# Altium footprint library SG_Common.PcbLib: 11 footprints
Each footprint in its own frame and in the unit in brackets; x right, y up, seen from the top. Pads: shape width x height; smd on the part's side, far side on the other; paste and mask are expansions set on the pad; w line width, h text height; cw(c..) or ccw(c..) is an arc to the next point about the centre after c.
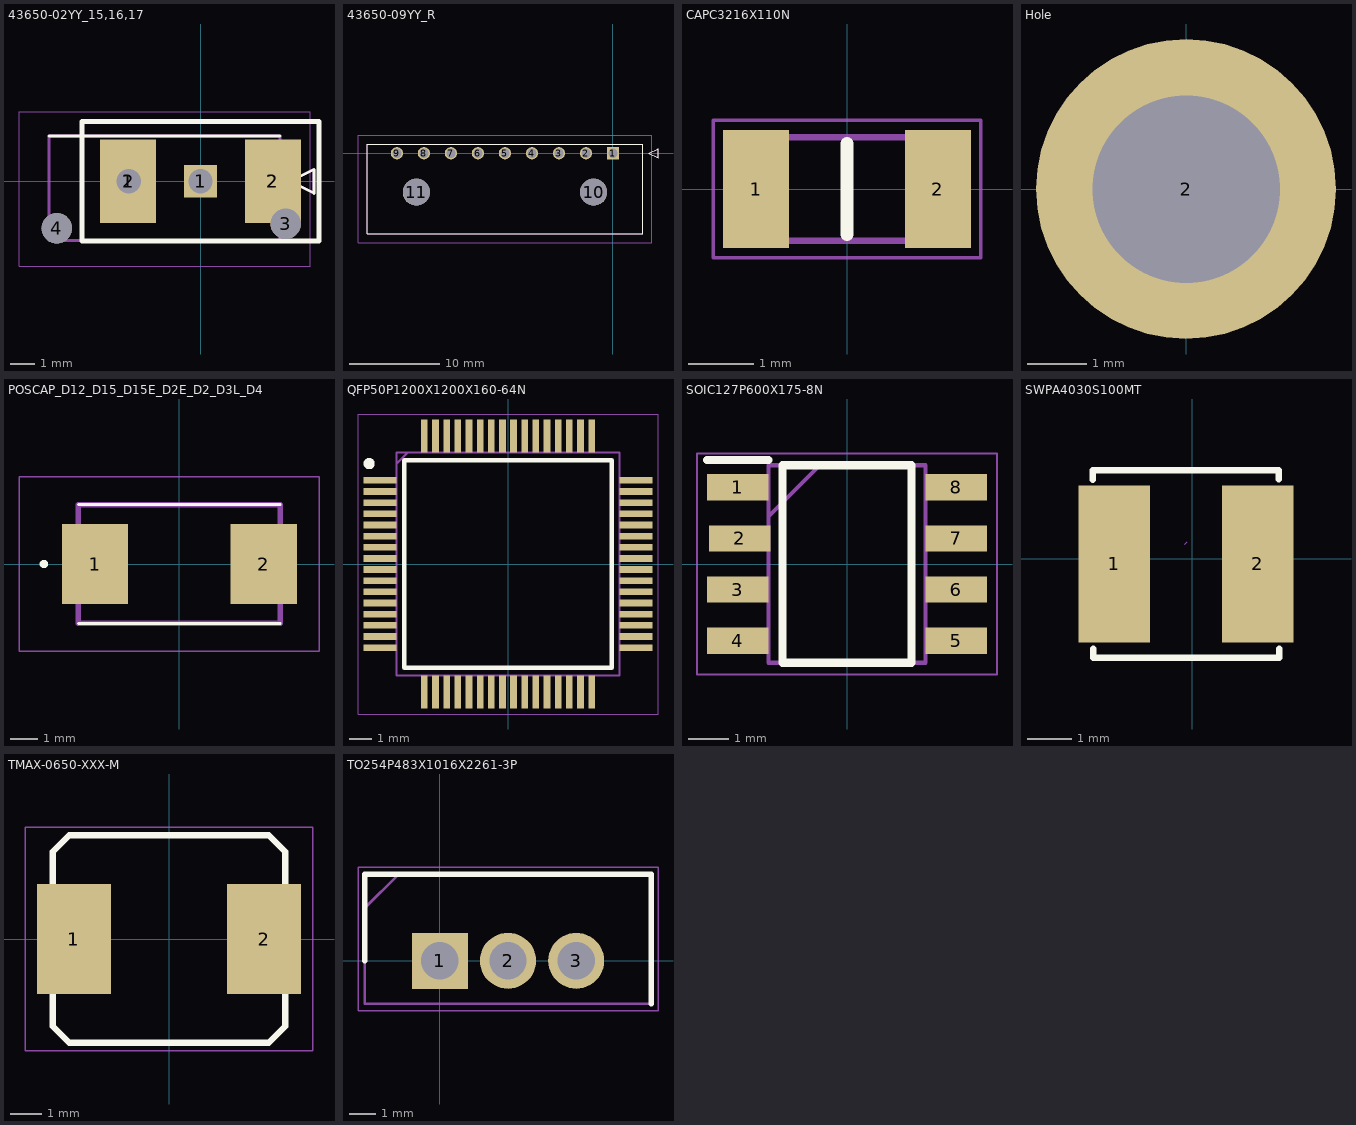
[diagram p0: the footprints below, top view; thin cyan lines are the x and y axes]

## 43650-02YY_15,16,17 [mm]
pads (8):
  rect 2.35x3.5 smd: 1(-3.025,0) 1(-3.025,0) 2(3.025,0) 2(3.025,0)
  rect 1.37x1.37 hole 1.02: 1(0,0)
  round 1.37 hole 1.02: 2(-3,0)
  round 1.27 hole 1.27 unplated: 3(3.556,-1.778) 4(-6,-1.96)
Top Overlay:
  lines w0.127: -6.325,1.9 3.325,1.9 ; 3.75,0 4.75,-0.5 4.75,0.5 3.75,0
  lines w0.2: -4.95,-2.5 4.95,-2.5 ; -4.95,-2.5 -4.95,0 ; -4.95,-2.5 4.95,-2.5 ; -4.95,-2.5 -4.95,0 ; -4.95,0 -4.95,2.5 ; -4.95,0 -4.95,2.5 ; -4.95,2.5 4.95,2.5 ; -4.95,2.5 4.95,2.5 ; 4.95,-2.5 4.95,2.5 ; 4.95,-2.5 4.95,2.5
Mechanical 13:
  lines w0.127: -6.325,-2.47 3.325,-2.47 3.325,1.9 -6.325,1.9 -6.325,-2.47 ; 3.75,0 4.75,-0.5 4.75,0.5 3.75,0
Mechanical 15:
  lines w0.05: -7.584,-3.544 4.584,-3.544 4.584,2.9 -7.584,2.9 -7.584,-3.544
3D body "43650-0215.stp": height 9.81, standoff -3.27, extent -6.35,-2.413 3.3,3.192

## 43650-09YY_R [mm]
pads (11):
  rect 1.37x1.37 hole 1.02: 1(0,0)
  round 1.37 hole 1.02: 2(-3,0) 3(-6,0) 4(-9,0) 5(-12,0) 6(-15,0) 7(-18,0) 8(-21,0) 9(-24,0)
  round 3 hole 3 unplated: 10(-2.15,-4.32) 11(-21.85,-4.32)
Top Overlay:
  lines w0.127: -27.325,-8.92 -27.325,0.98 3.325,0.98 3.325,-8.92 -27.325,-8.92 ; 4,0 5,0.5 5,-0.5 4,0
Mechanical 13:
  lines w0.127: -27.325,-8.92 -27.325,0.98 3.325,0.98 3.325,-8.92 -27.325,-8.92 ; 4,0 5,0.5 5,-0.5 4,0
Mechanical 15:
  lines w0.05: -28.325,-9.92 -28.325,1.98 4.325,1.98 4.325,-9.92 -28.325,-9.92
3D body "43650-0900.stp": height 5.54, standoff -3.37, extent -27.315,-8.9 3.315,1

## CAPC3216X110N [mm]
pads (2):
  rect 1.02x1.82 smd: 1(-1.4,0) 2(1.4,0)
Top Overlay:
  lines w0.2: 0,-0.7 0,0.7
Mechanical 13:
  lines w0.1: -1.6,-0.8 1.6,-0.8 1.6,0.8 -1.6,0.8 -1.6,-0.8
Mechanical 15:
  lines w0.05: -2.06,-1.06 2.06,-1.06 2.06,1.06 -2.06,1.06 -2.06,-1.06
3D body "C1206C104K5RAC7867.stp": height 1.1, standoff 0, extent -1.6,-0.8 1.6,0.8

## Hole [mm]
pads (1):
  round 5.08 hole 3.175: 2(0,0)

## PCBComponent_1 [mm]

## POSCAP_D12_D15_D15E_D2E_D2_D3L_D4 [mm]
pads (2):
  rect 2.4x2.9 smd: 1(-3.05,0) 2(3.05,0)
Top Overlay:
  circle w0.2: c-4.9,0 r0.05
  lines w0.1: -3.65,-2.15 3.65,-2.15 ; -3.65,2.15 3.65,2.15
Mechanical 13:
  lines w0.2: -3.65,-2.15 3.65,-2.15 3.65,2.15 -3.65,2.15 -3.65,-2.15
Mechanical 15:
  lines w0.05: -5.8,-3.15 5.05,-3.15 5.05,3.15 -5.8,3.15 -5.8,-3.15
3D body "4TPE330M.stp": height 1.02, standoff 1.02, extent 0,0 0,0

## QFP50P1200X1200X160-64N [mm]
pads (64):
  rect 1.475x0.3 smd: 1(-5.738,3.75) 2(-5.738,3.25) 3(-5.738,2.75) 4(-5.738,2.25) 5(-5.738,1.75) 6(-5.738,1.25) 7(-5.738,0.75) 8(-5.738,0.25) 9(-5.738,-0.25) 10(-5.738,-0.75) 11(-5.738,-1.25) 12(-5.738,-1.75) 13(-5.738,-2.25) 14(-5.738,-2.75) 15(-5.738,-3.25) 16(-5.738,-3.75) 33(5.738,-3.75) 34(5.738,-3.25) 35(5.738,-2.75) 36(5.738,-2.25) 37(5.738,-1.75) 38(5.738,-1.25) 39(5.738,-0.75) 40(5.738,-0.25) 41(5.738,0.25) 42(5.738,0.75) 43(5.738,1.25) 44(5.738,1.75) 45(5.738,2.25) 46(5.738,2.75) 47(5.738,3.25) 48(5.738,3.75)
  rect 0.3x1.475 smd: 17(-3.75,-5.738) 18(-3.25,-5.738) 19(-2.75,-5.738) 20(-2.25,-5.738) 21(-1.75,-5.738) 22(-1.25,-5.738) 23(-0.75,-5.738) 24(-0.25,-5.738) 25(0.25,-5.738) 26(0.75,-5.738) 27(1.25,-5.738) 28(1.75,-5.738) 29(2.25,-5.738) 30(2.75,-5.738) 31(3.25,-5.738) 32(3.75,-5.738) 49(3.75,5.738) 50(3.25,5.738) 51(2.75,5.738) 52(2.25,5.738) 53(1.75,5.738) 54(1.25,5.738) 55(0.75,5.738) 56(0.25,5.738) 57(-0.25,5.738) 58(-0.75,5.738) 59(-1.25,5.738) 60(-1.75,5.738) 61(-2.25,5.738) 62(-2.75,5.738) 63(-3.25,5.738) 64(-3.75,5.738)
Top Overlay:
  circle w0.25: c-6.225,4.5 r0.125
  lines w0.2: -4.65,-4.65 4.65,-4.65 4.65,4.65 -4.65,4.65 -4.65,-4.65
Mechanical 13:
  lines w0.1: -5,4.5 -4.5,5 ; -5,-5 5,-5 5,5 -5,5 -5,-5
Mechanical 15:
  lines w0.05: -6.725,-6.725 6.725,-6.725 6.725,6.725 -6.725,6.725 -6.725,-6.725
3D body "STM32F072RBT6.stp": height 1.6, standoff 0, extent -6,-6 6,6

## SOIC127P600X175-8N [mm]
pads (8):
  rect 1.528x0.65 smd: 1(-2.711,1.905) 2(-2.667,0.635) 3(-2.711,-0.635) 4(-2.711,-1.905) 5(2.711,-1.905) 6(2.711,-0.635) 7(2.711,0.635) 8(2.711,1.905)
Top Overlay:
  lines w0.2: -3.475,2.58 -1.948,2.58 ; -1.598,-2.452 1.598,-2.452 1.598,2.452 -1.598,2.452 -1.598,-2.452
Mechanical 13:
  lines w0.1: -1.948,1.182 -0.678,2.452 ; -1.948,-2.452 1.948,-2.452 1.948,2.452 -1.948,2.452 -1.948,-2.452
Mechanical 15:
  lines w0.05: -3.725,-2.75 3.725,-2.75 3.725,2.75 -3.725,2.75 -3.725,-2.75
3D body "SN65HVDA1040BQDRQ1.stp": height 1.63, standoff 0, extent -3.011,-2.451 3.011,2.451

## SWPA4030S100MT [mm]
pads (2):
  rect 1.6x3.5 smd: 1(-1.74,-0.115) 2(1.46,-0.115)
Top Overlay:
  lines w0.15: -2.22,1.765 -2.223,1.981 1.93,1.981 1.93,1.785 ; -2.21,-2.005 -2.21,-2.211 1.943,-2.211 1.94,-2.015
Mechanical 15:
  lines w0.003: -0.165,0.33 -0.115,0.381

## TMAX-0650-XXX-M [mm]
pads (2):
  rect 2.35x3.5 smd: 1(-3.025,0) 2(3.025,0)
Top Overlay:
  lines w0.2: -3.7,-2.777 -3.177,-3.3 3.177,-3.3 3.7,-2.777 3.7,2.777 3.177,3.3 -3.177,3.3 -3.7,2.777 -3.7,-2.777
Mechanical 15:
  lines w0.05: -4.572,-3.556 4.572,-3.556 4.572,3.556 -4.572,3.556 -4.572,-3.556

## TO254P483X1016X2261-3P [mm]
pads (3):
  rect 2.085x2.085 hole 1.39: 1(0,0)
  round 2.085 hole 1.39: 2(2.54,0) 3(5.08,0)
Top Overlay:
  lines w0.2: -2.795,0 -2.795,3.225 7.875,3.225 7.875,-1.605
Mechanical 13:
  lines w0.1: -2.795,1.955 -1.525,3.225 ; -2.795,-1.605 -2.795,3.225 7.875,3.225 7.875,-1.605 -2.795,-1.605
Mechanical 15:
  lines w0.05: -3.045,-1.855 -3.045,3.475 8.125,3.475 8.125,-1.855 -3.045,-1.855
3D body "FQP13N06L.stp": height 21.59, standoff -17.78, extent -2.54,-1.605 7.62,3.225